# Altium schematic symbol library LM2576.SchLib: 1 symbol
Pins are listed as number, name and electrical type; pins without a type are passive.

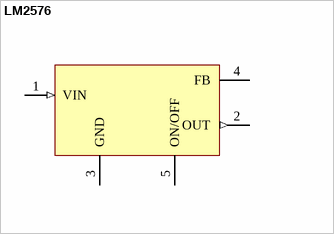
[diagram p0: symbol LM2576]

## LM2576
designator U?
pins: 1 VIN (in), 2 OUT (out), 3 GND (power), 4 FB, 5 ON/OFF (power)